# Altium schematic symbol library SMF75A_C51164161_SMF75A_C5116416.schdoc.SCHLIB: 1 symbol
Pins are listed as number, name and electrical type; pins without a type are passive.

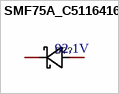
[diagram p0: symbol SMF75A_C5116416]

## SMF75A_C5116416
designator D??, comment 92.1V
Manufacturer Part: SMF75A; Symbol: SMF75A_C5116416; Add into BOM: yes; Reverse Stand-Off Voltage (Vrwm): 75V; Maximum Clamping Voltage: 121V; Peak Pulse Current (Ipp)@10/1000us: 1.4A; Peak Pulse Power Dissipation (Ppp)@10/1000us: 200W; Reverse Leakage Current (Ir): 1uA; Device: SMF75A_C5116416; Supplier: LCSC; Supplier Part: C5116416; Supplier Footprint: SOD-123FL; JLCPCB Part Class: Extended Part; Datasheet: https://atta.szlcsc.com/upload/public/pdf/source/20220715/82D6503F9C43F0DF9BB8970EC229759F.pdf; Convert to PCB: yes; Breakdown Voltage: 92.1V
footprint SOD-123FL_L2.8-W1.8-LS3.7-RD
pins: 1 K, 2 A